# Altium schematic symbol library AD8251.Schlib: 1 symbol
Pins are listed as number, name and electrical type; pins without a type are passive.

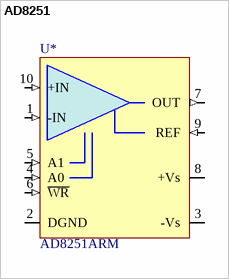
[diagram p0: symbol AD8251]

## AD8251
designator U*, comment AD8251ARM
10 MHz, 20 V/мs, G = 1, 2, 4, 8 iCMOS Programmable Gain Instrumentation Amplifier; Назначение: Операционный усилитель с программируемым КУ; Наименование: AD8251
footprint u_SO-10
pins: 1 -IN (in), 2 DGND (power), 3 -Vs (power), 4 A0 (in), 5 A1 (in), 6 ~{WR} (in), 7 OUT (out), 8 +Vs (power), 9 REF (in), 10 +IN (in)